# EAGLE library part MAX6675_LARGE (library SD-SolderSync-Library)
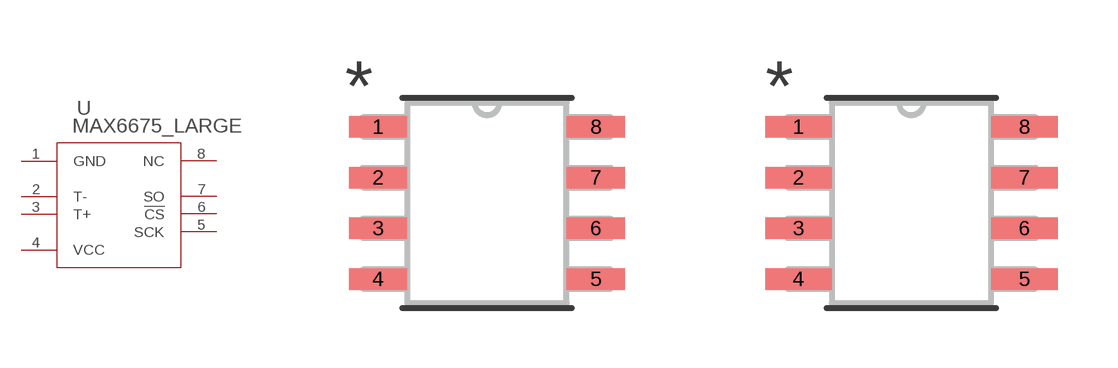
[diagram p12: symbol with the pads of 21-0041B_8_MXM; footprints 21-0041B_8_MXM, 21-0041B_8_MXM-M]

Designator prefix U

## MAX6675_LARGE21-0041B_8_MXM (COPYRIGHT: Copyright (C) 2025 Ultra Librarian. All rights reserved.; MANUFACTURER_PART_NUMBER: max6675isa+T; MFR_NAME: Analog Devices Inc)  [21-0041B_8_MXM]
1  GND  pwr
2  T-  pas
3  T+  pas
4  VCC  pwr
5  SCK  in
6  !CS  in
7  SO  out
8  NC  nc

## MAX6675_LARGE21-0041B_8_MXM-M (COPYRIGHT: Copyright (C) 2025 Ultra Librarian. All rights reserved.; MANUFACTURER_PART_NUMBER: max6675isa+T; MFR_NAME: Analog Devices Inc)  [21-0041B_8_MXM-M]
Pads as for 21-0041B_8_MXM

## MAX6675_LARGE21-0041B_8_MXM-L (COPYRIGHT: Copyright (C) 2025 Ultra Librarian. All rights reserved.; MANUFACTURER_PART_NUMBER: max6675isa+T; MFR_NAME: Analog Devices Inc)  [21-0041B_8_MXM-L]
Pads as for 21-0041B_8_MXM

## Footprint 21-0041B_8_MXM (pad centres in mm)
smd 1.46 x 0.533: 1 -2.724,1.905; 2 -2.724,0.635; 3 -2.724,-0.635; 4 -2.724,-1.905; 5 2.724,-1.905; 6 2.724,-0.635; 7 2.724,0.635; 8 2.724,1.905

## Footprint 21-0041B_8_MXM-M (pad centres in mm)
smd 1.664 x 0.533: 1 -2.826,1.905; 2 -2.826,0.635; 3 -2.826,-0.635; 4 -2.826,-1.905; 5 2.826,-1.905; 6 2.826,-0.635; 7 2.826,0.635; 8 2.826,1.905

## Footprint 21-0041B_8_MXM-L (pad centres in mm)
smd 1.257 x 0.483: 1 -2.623,1.905; 2 -2.623,0.635; 3 -2.623,-0.635; 4 -2.623,-1.905; 5 2.623,-1.905; 6 2.623,-0.635; 7 2.623,0.635; 8 2.623,1.905